# EAGLE library part DS3231 (library DS3231_industrialberry)
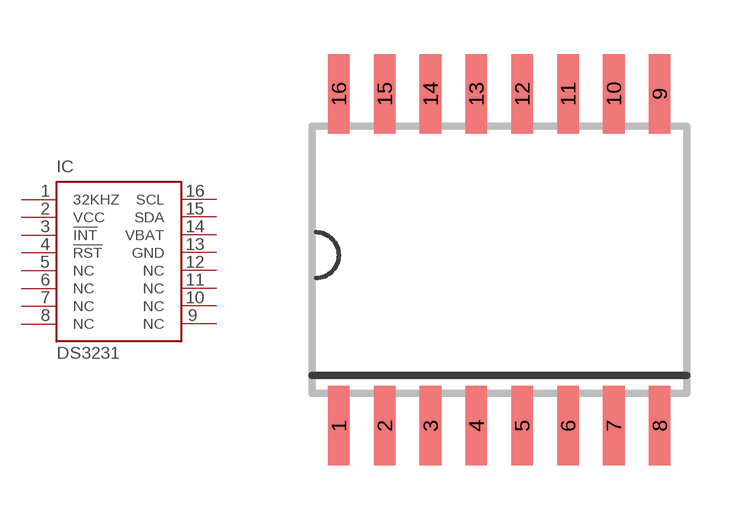
[diagram p0: symbol with the pads of SOIC-16W; footprint SOIC-16W]

Designator prefix IC

## DS3231SOIC-16W  [SOIC-16W]
1  32KHZ
2  VCC
3  !INT
4  !RST
5  NC
6  NC
7  NC
8  NC
9  NC
10  NC
11  NC
12  NC
13  GND
14  VBAT
15  SDA
16  SCL

## Footprint SOIC-16W (pad centres in mm)
smd 0.6 x 2.2: 1 -4.445,-4.6; 2 -3.175,-4.6; 3 -1.905,-4.6; 4 -0.635,-4.6; 5 0.635,-4.6; 6 1.905,-4.6; 7 3.175,-4.6; 8 4.445,-4.6; 9 4.445,4.6; 10 3.175,4.6; 11 1.905,4.6; 12 0.635,4.6; 13 -0.635,4.6; 14 -1.905,4.6; 15 -3.175,4.6; 16 -4.445,4.6